# Altium integrated library AB38T-32.768KHZ.IntLib: 1 symbol
Pins are listed as number, name and electrical type; pins without a type are passive.

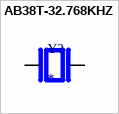
[diagram p0: symbol AB38T-32.768KHZ]

## AB38T-32.768KHZ
designator Y?
MP: AB38T-32.768KHZ; Price: None; Package: None; Availability: Unavailable; Value: *
footprint XTAL_AB38T-32.768KHZ
pins: 1, 2